# Altium footprint library Inductor_DO1813H-181MLB_2-PINS.PcbLib: 1 footprints
Each footprint in its own frame and in the unit in brackets; x right, y up, seen from the top. Pads: shape width x height; smd on the part's side, far side on the other; paste and mask are expansions set on the pad; w line width, h text height; cw(c..) or ccw(c..) is an arc to the next point about the centre after c.
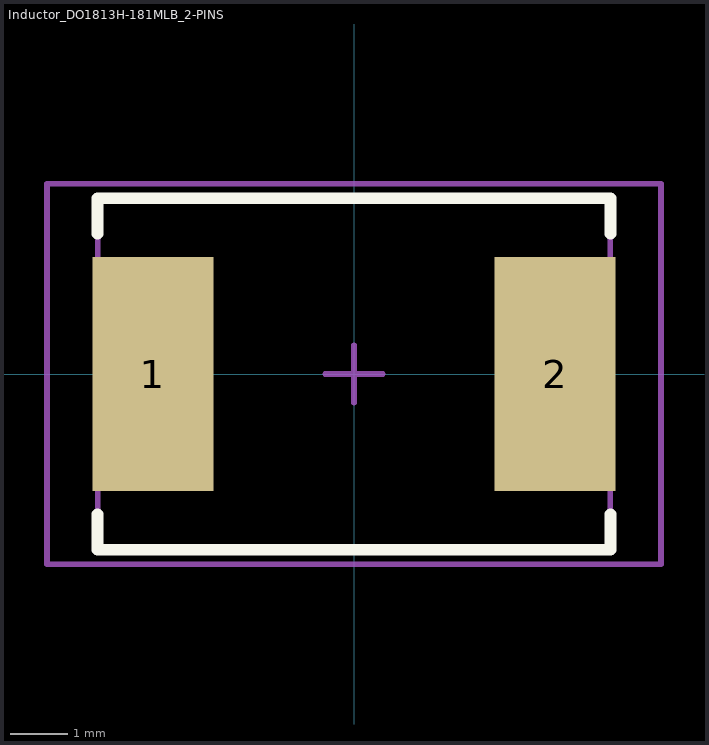
[diagram p0: the footprint, top view; thin cyan lines are the x and y axes]

## Inductor_DO1813H-181MLB_2-PINS [mm]
height 5
pads (2):
  rect 2.1x4.06 smd: 1(-3.49,0) 2(3.49,0)
Top Overlay:
  lines w0.2: -4.45,-2.43 -4.45,-3.05 4.45,-3.05 4.45,-2.43 ; -4.45,2.43 -4.45,3.05 4.45,3.05 4.45,2.43
Mechanical 13:
  lines w0.1: -4.445,-3.05 4.445,-3.05 4.445,3.05 -4.445,3.05 -4.445,-3.05
Mechanical 15:
  lines w0.1: -0.5,0 0.5,0 ; 0,-0.5 0,0.5 ; -5.325,-3.3 5.325,-3.3 5.325,3.3 -5.325,3.3 -5.325,-3.3
3D body: height 5, standoff 0, extent -4.445,-3.05 4.445,3.05